# Altium footprint library 74LVX4245.PcbLib: 1 footprints
Each footprint in its own frame and in the unit in brackets; x right, y up, seen from the top. Pads: shape width x height; smd on the part's side, far side on the other; paste and mask are expansions set on the pad; w line width, h text height; cw(c..) or ccw(c..) is an arc to the next point about the centre after c.
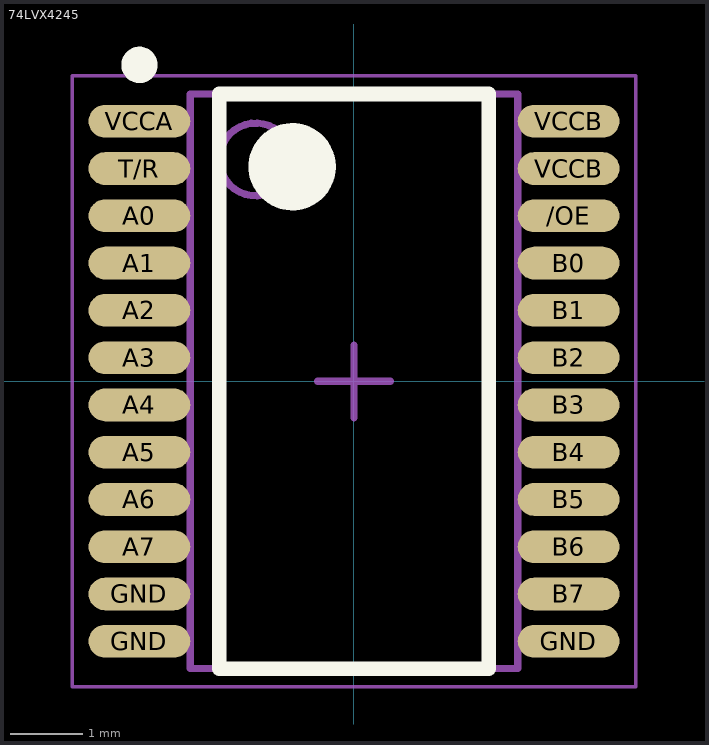
[diagram p0: the footprint, top view; thin cyan lines are the x and y axes]

## 74LVX4245 [mm] "8-Bit Dual Supply Translating Transceiver with 3-STATE Outputs"
height 1.1
pads (24):
  oval 1.4x0.45 smd: /OE(2.95,2.275) A0(-2.95,2.275) A1(-2.95,1.625) A2(-2.95,0.975) A3(-2.95,0.325) A4(-2.95,-0.325) A5(-2.95,-0.975) A6(-2.95,-1.625) A7(-2.95,-2.275) B0(2.95,1.625) B1(2.95,0.975) B2(2.95,0.325) B3(2.95,-0.325) B4(2.95,-0.975) B5(2.95,-1.625) B6(2.95,-2.275) B7(2.95,-2.925) GND(-2.95,-3.575) GND(-2.95,-2.925) GND(2.95,-3.575) T/R(-2.95,2.925) VCCA(-2.95,3.575) VCCB(2.95,2.925) VCCB(2.95,3.575)
Top Overlay:
  circle w0.25: c-2.95,4.35 r0.125
  circle w0.6: c-0.85,2.95 r0.3
  lines w0.2: -1.85,-3.95 -1.85,3.95 1.85,3.95 1.85,-3.95 -1.85,-3.95
Assembly Top:
  circle w0.1: c-1.35,3.05 r0.5
  lines w0.1: -2.25,-3.95 -2.25,3.95 2.25,3.95 2.25,-3.95 -2.25,-3.95
Courtyard Top:
  lines w0.05: -3.875,-4.2 -3.875,4.2 3.875,4.2 3.875,-4.2 -3.875,-4.2
  lines w0.1: -0.5,0 0.5,0 ; 0,-0.5 0,0.5
3D body: height 1.1, standoff 0.1, extent -2.25,-3.95 2.25,3.95